# Altium footprint library PuttPilot.PcbLib: 34 footprints (part 3 of 3)
Each footprint in its own frame and in the unit in brackets; x right, y up, seen from the top. Pads: shape width x height; smd on the part's side, far side on the other; paste and mask are expansions set on the pad; w line width, h text height; cw(c..) or ccw(c..) is an arc to the next point about the centre after c.
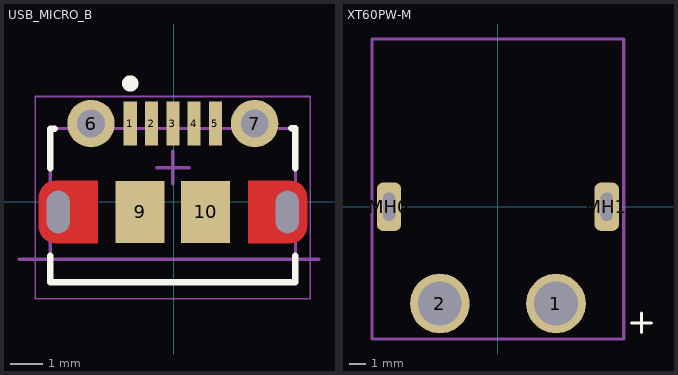
[diagram p2: the footprints below, top view; thin cyan lines are the x and y axes]

## USB_MICRO_B [mm]
pads (11):
  rect 0.4x1.35 smd: 1(-1.32,2.39) 2(-0.67,2.39) 3(-0.02,2.39) 4(0.63,2.39) 5(1.28,2.39)
  round 1.45 hole 0.85: 6(-2.52,2.39) 7(2.48,2.39)
  rrect50% 0x0 hole 0.7 slot 1.3 at 90 deg: 8(-3.52,-0.31) 11(3.48,-0.31)
  rect 1.5x1.9 smd: 9(-1.02,-0.31) 10(0.98,-0.31)
Top Layer:
  circle w0.5: c-3.62,-0.76 r0.25
  circle w0.5: c-3.62,0.14 r0.25
  circle w0.5: c3.58,-0.76 r0.25
  circle w0.5: c3.58,0.14 r0.25
  region: -3.62,-0.76 -3.62,0.14 -4.12,0.14 -4.12,-0.76
  region: 3.58,0.14 3.58,-0.76 4.08,-0.76 4.08,0.14
  region: 2.28,0.64 2.28,-1.26 3.58,-1.26 3.58,0.64
  region: -2.32,-1.26 -2.32,0.64 -3.62,0.64 -3.62,-1.26
Top Overlay:
  circle w0.25: c-1.32,3.615 r0.125
  lines w0.2: -3.765,-1.648 -3.765,-2.46 3.725,-2.46 3.725,-1.648 ; -3.765,1.028 -3.765,2.235 -3.634,2.235 ; 3.595,2.24 3.725,2.24 3.725,1.028
M1 Board Outline:
  lines w0.1: -4.72,-1.76 4.445,-1.76
  text "PCB EDGE" at -7.22,-1.86 h0.3
Top 3D Body:
  lines w0.1: -3.77,2.24 3.725,2.24 3.725,-2.46 -3.765,-2.46 -3.765,2.235
Top Courtyard:
  lines w0.05: -4.22,-2.96 4.18,-2.96 4.18,3.215 -4.22,3.215 -4.22,-2.96
  lines w0.1: -0.52,1.04 0.48,1.04 ; -0.02,0.54 -0.02,1.54
3D body "1050170001.stp": height 2.67, standoff -0.63, extent -4.12,-2.86 4.08,2.54

## XT60PW-M [mm] "XT60 Male"
pads (4):
  round 3.7 hole 2.7: 1(3.6,-6) 2(-3.6,-6)
  rrect50% 1.5x3 hole 0.75 slot 1.75 at 90 deg: MH0(-6.75,0) MH1(6.75,0)
Top Overlay:
  lines w0.2: 8.3,-7.2 8.9,-7.2 ; 8.9,-7.8 8.9,-7.2 ; 8.9,-6.6 8.9,-7.2 ; 9.5,-7.2 8.9,-7.2
Top Component Outline:
  lines w0.2: -7.8,-8 -7.8,10.4 7.8,10.4 7.8,-8
Top Designator:
  text ".Designator" at -4.146,-0.038 h1.52
Top Courtyard:
  lines w0.2: -7.8,-8.2 -7.8,10.4 7.8,10.4 7.8,-8.2 -7.8,-8.2
3D body "XT60PW-M--3DModel-STEP-1.STEP": height 8.41, standoff -2.54, extent -7.75,-7.85 7.75,10.35